# EAGLE library part TPS6103X (library pimoroni-ics)
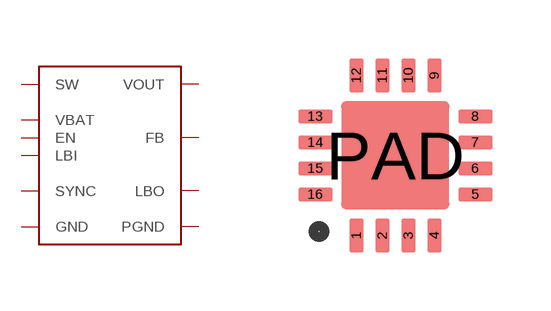
[diagram p29: symbol with the pads of PVQFN-16; footprint PVQFN-16]

Designator prefix -

## TPS6103X  [PVQFN-16]
1  VOUT
3  SW
4  SW
5  PGND
6  PGND
7  PGND
8  VBAT
9  LBI
10  SYNC
11  EN
12  LBO
13  GND
14  FB
15  VOUT
16  VOUT
PAD  PGND

## Footprint PVQFN-16 (pad centres in mm)
smd 0.35 x 0.85: 1 -0.975,-2; 2 -0.325,-2; 3 0.325,-2; 4 0.975,-2; 9 0.975,2; 10 0.325,2; 11 -0.325,2; 12 -0.975,2
smd 0.85 x 0.35: 5 2,-0.975; 6 2,-0.325; 7 2,0.325; 8 2,0.975; 13 -2,0.975; 14 -2,0.325; 15 -2,-0.325; 16 -2,-0.975
smd 2.7 x 2.7: PAD 0,0